# EAGLE library part AS3364 (library joakim)
AS3364 quad linear VCA, CEM3360 style. CV is 0 to 2V Vcc-Vee = 26V max, so +/-12V or +15V/-9V
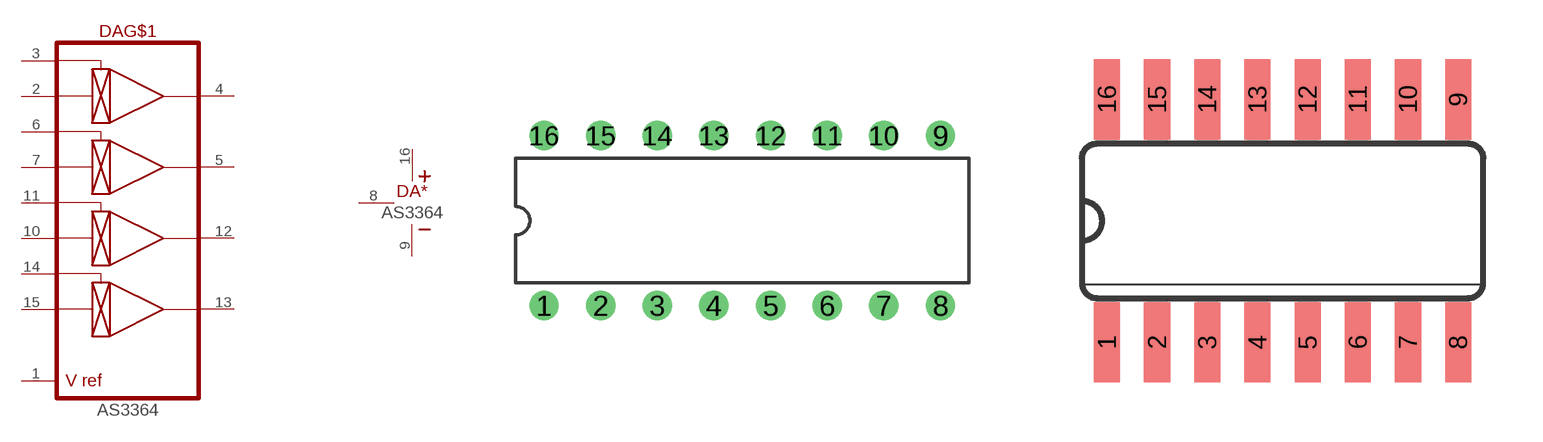
[diagram p60: symbol with the pads of DIL16J; footprints DIL16J, SO16J]

Designator prefix DA; gates *=SUPPLY+GND G$1=AS3364

## AS3364D  [DIL16J]
1  G$1:VREF  out
2  G$1:IN1  in
3  G$1:CV1  in
4  G$1:OUT1  out
5  G$1:OUT2  out
6  G$1:CV2  in
7  G$1:IN2  in
8  *:GND  pwr
9  *:V-  pwr
10  G$1:IN3  in
11  G$1:CV3  in
12  G$1:OUT3  out
13  G$1:OUT4  out
14  G$1:CV4  in
15  G$1:IN4  in
16  *:V+  pwr

## AS3364M  [SO16J]
Pads as for DIL16J

## Footprint DIL16J (pad centres in mm)
Dual In Line 16
drill 0.813: 1 -8.89,-3.81; 2 -6.35,-3.81; 3 -3.81,-3.81; 4 -1.27,-3.81; 5 1.27,-3.81; 6 3.81,-3.81; 7 6.35,-3.81; 8 8.89,-3.81; 9 8.89,3.81; 10 6.35,3.81; 11 3.81,3.81; 12 1.27,3.81; 13 -1.27,3.81; 14 -3.81,3.81; 15 -6.35,3.81; 16 -8.89,3.81

## Footprint SO16J (pad centres in mm)
Small Outline Package 16
smd 0.66 x 2.032: 1 -4.445,-3.073; 2 -3.175,-3.073; 3 -1.905,-3.073; 4 -0.635,-3.073; 5 0.635,-3.073; 6 1.905,-3.073; 7 3.175,-3.073; 8 4.445,-3.073; 9 4.445,3.073; 10 3.175,3.073; 11 1.905,3.073; 12 0.635,3.073; 13 -0.635,3.073; 14 -1.905,3.073; 15 -3.175,3.073; 16 -4.445,3.073